# Altium integrated library Xilinx Virtex-II Pro.IntLib: 140 symbols (part 66 of 77)
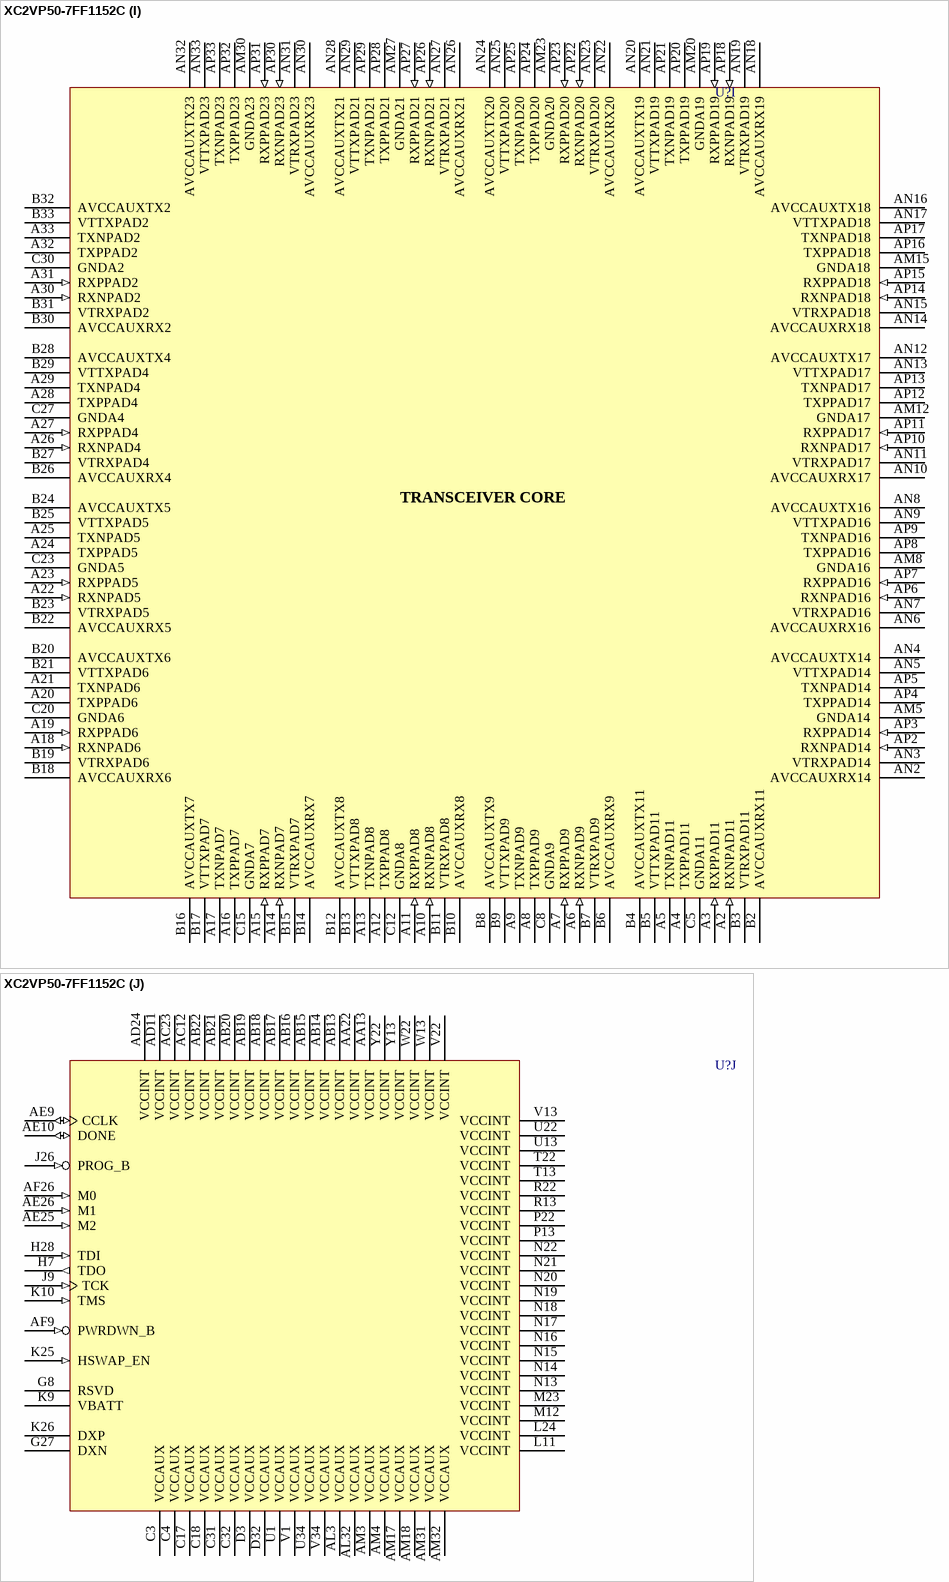
[diagram p464: symbol XC2VP50-7FF1152C]

## XC2VP100-7FF1696C
designator U?
Virtex-II Pro Platform FPGA, 1696-Ball FFBGA, Speed Grade 7, 1164 User I/Os, Commercial Grade; PackageDocument: ver1.0, Oct-2002; User_I/Os: 1164; Published: 16-Apr-2003; DatasheetDocument: 22-Apr-2004; PackageReference: FF1696; Publisher: Altium Limited; Code_JEDEC: MS-034-AAV-1
footprint FF1696 (1696-Ball Flip-Chip Fine Pitch Ball Grid Array (FF1696))
3D model XC2VP100-FF1696 (1696-Ball Flip-Chip Fine Pitch Ball Grid Array (FF1696))
signal-integrity model XC2VP100_FF1696 (Virtex-II Pro)
part A pins: A24 IO_L60N_0 (io), A25 IO_L54N_0 (io), A27 NC, A28 IO_L37N_0 (io), A29 IO_L79N_0 (io), A32 IO_L19N_0 (io), A33 IO_L06N_0 (io), B22 IO_L75N_0/GCLK5P (io), B23 IO_L66N_0 (io), B24 IO_L60P_0 (io), B25 IO_L54P_0 (io), B26 NC, B27 NC, B28 IO_L37P_0 (io), B29 IO_L79P_0 (io), B30 IO_L34N_0 (io), B31 IO_L28N_0 (io), B32 IO_L19P_0 (io), B33 IO_L06P_0 (io), C22 IO_L75P_0/GCLK4S (io), C23 IO_L66P_0/VREF_0 (io), C24 IO_L49N_0 (io), C25 IO_L49P_0 (io), C26 NC, C27 IO_L87N_0 (io), C28 IO_L87P_0/VREF_0 (io), C29 IO_L78P_0 (io), C30 IO_L34P_0 (io), C31 IO_L28P_0 (io), C32 IO_L03N_0 (io), C33 IO_L03P_0/VREF_0 (io), D22 IO_L73N_0 (io), D23 IO_L58N_0 (io), D24 IO_L58P_0 (io), D25 VCCO_0 (power), D26 IO_L45N_0 (io), D27 IO_L45P_0/VREF_0 (io), D28 IO_L78N_0 (io), D29 VCCO_0 (power), D30 IO_L27N_0 (io), D31 IO_L27P_0/VREF_0 (io), D32 IO_L09N_0 (io), D33 VCCO_0 (power), E22 IO_L73P_0 (io), E24 IO_L57N_0 (io), E25 IO_L48N_0 (io), E27 IO_L43N_0 (io), E28 IO_L85N_0 (io), E29 IO_L76N_0 (io), E31 IO_L25N_0 (io), E32 IO_L09P_0/VREF_0 (io), E33 IO_L01N_0/VRP_0 (io), F22 IO_L69N_0 (io), F23 IO_L64N_0 (io), F24 IO_L57P_0/VREF_0 (io), F25 IO_L48P_0 (io), F26 NC, F27 IO_L43P_0 (io), F28 IO_L85P_0 (io), F29 IO_L76P_0 (io), F30 IO_L30N_0 (io), F31 IO_L25P_0 (io), F32 IO_L07N_0 (io), F33 IO_L01P_0/VRN_0 (io), G22 IO_L69P_0/VREF_0 (io), G23 IO_L64P_0 (io), G24 IO_L46N_0 (io), G25 IO_L46P_0 (io), G26 NC, G27 IO_L84N_0 (io), G28 IO_L84P_0 (io), G29 IO_L36P_0/VREF_0 (io), G30 IO_L30P_0 (io), G31 IO_L21P_0 (io), G32 IO_L07P_0 (io), G33 IO_L05_0/No_Pair (io), H22 IO_L67N_0 (io), H23 IO_L55N_0 (io), H24 IO_L55P_0 (io), H25 VCCO_0 (power), H26 IO_L39N_0 (io), H27 IO_L39P_0 (io), H28 IO_L36N_0 (io), H29 VCCO_0 (power), H30 IO_L21N_0 (io), H31 IO_L26N_0 (io), H32 IO_L08N_0 (io), J22 IO_L67P_0 (io), J24 IO_L59N_0 (io), J25 IO_L56N_0 (io), J27 IO_L44N_0 (io), J28 IO_L86N_0 (io), J29 IO_L77N_0 (io), J31 IO_L26P_0 (io), J32 IO_L08P_0 (io), K22 IO_L74N_0/GCLK7P (io), K23 IO_L68N_0 (io), K24 IO_L59P_0 (io), K25 IO_L56P_0 (io), K26 IO_L47N_0 (io), K27 IO_L44P_0 (io), K28 IO_L86P_0 (io), K29 IO_L77P_0 (io), K30 IO_L29N_0 (io), K31 IO_L20N_0 (io), K32 IO_L02N_0 (io), L22 IO_L74P_0/GCLK6S (io), L23 IO_L68P_0 (io), L24 IO_L50_0/No_Pair (io), L25 IO_L53_0/No_Pair (io), L26 IO_L47P_0 (io), L27 IO_L38N_0 (io), L28 IO_L80_0/No_Pair (io), L29 IO_L35N_0 (io), L30 IO_L29P_0 (io), L31 IO_L20P_0 (io), L32 IO_L02P_0 (io), M22 IO_L65N_0 (io), M23 IO_L65P_0 (io), M25 NC, M26 NC, M27 IO_L38P_0 (io), M28 IO_L83_0/No_Pair (io), M29 IO_L35P_0 (io), M30 VCCO_0 (power), P22 VCCO_0 (power), P23 VCCO_0 (power), P24 VCCO_0 (power), P25 VCCO_0 (power), P26 VCCO_0 (power), R22 VCCO_0 (power), R23 VCCO_0 (power), R24 VCCO_0 (power), R25 VCCO_0 (power)
part B pins: A10 IO_L06P_1 (io), A11 IO_L19P_1 (io), A14 IO_L79P_1 (io), A15 IO_L37P_1 (io), A16 NC, A18 IO_L54P_1 (io), A19 IO_L60P_1 (io), B10 IO_L06N_1 (io), B11 IO_L19N_1 (io), B12 IO_L28P_1 (io), B13 IO_L34P_1 (io), B14 IO_L79N_1 (io), B15 IO_L37N_1 (io), B16 NC, B17 NC, B18 IO_L54N_1 (io), B19 IO_L60N_1 (io), B20 IO_L66P_1 (io), B21 IO_L75P_1/GCLK2S (io), C10 IO_L03N_1/VREF_1 (io), C11 IO_L03P_1 (io), C12 IO_L28N_1 (io), C13 IO_L34N_1 (io), C14 IO_L78N_1 (io), C15 IO_L87N_1/VREF_1 (io), C16 IO_L87P_1 (io), C17 NC, C18 IO_L49N_1 (io), C19 IO_L49P_1 (io), C20 IO_L66N_1/VREF_1 (io), C21 IO_L75N_1/GCLK3P (io), D10 VCCO_1 (power), D11 IO_L09P_1 (io), D12 IO_L27N_1/VREF_1 (io), D13 IO_L27P_1 (io), D14 VCCO_1 (power), D15 IO_L78P_1 (io), D16 IO_L45N_1/VREF_1 (io), D17 IO_L45P_1 (io), D18 VCCO_1 (power), D19 IO_L58N_1 (io), D20 IO_L58P_1 (io), D21 IO_L73P_1 (io), E10 IO_L01P_1/VRN_1 (io), E11 IO_L09N_1/VREF_1 (io), E12 IO_L25P_1 (io), E14 IO_L76P_1 (io), E15 IO_L85P_1 (io), E16 IO_L43P_1 (io), E18 IO_L48P_1 (io), E19 IO_L57P_1 (io), E21 IO_L73N_1 (io), F10 IO_L01N_1/VRP_1 (io), F11 IO_L07P_1 (io), F12 IO_L25N_1 (io), F13 IO_L30P_1 (io), F14 IO_L76N_1 (io), F15 IO_L85N_1 (io), F16 IO_L43N_1 (io), F17 NC, F18 IO_L48N_1 (io), F19 IO_L57N_1/VREF_1 (io), F20 IO_L64P_1 (io), F21 IO_L69P_1 (io), G10 IO_L05_1/No_Pair (io), G11 IO_L07N_1 (io), G12 IO_L21N_1 (io), G13 IO_L30N_1 (io), G14 IO_L36N_1/VREF_1 (io), G15 IO_L84N_1 (io), G16 IO_L84P_1 (io), G17 NC, G18 IO_L46N_1 (io), G19 IO_L46P_1 (io), G20 IO_L64N_1 (io), G21 IO_L69N_1/VREF_1 (io), H11 IO_L08P_1 (io), H12 IO_L26P_1 (io), H13 IO_L21P_1 (io), H14 VCCO_1 (power), H15 IO_L36P_1 (io), H16 IO_L39N_1 (io), H17 IO_L39P_1 (io), H18 VCCO_1 (power), H19 IO_L55N_1 (io), H20 IO_L55P_1 (io), H21 IO_L67P_1 (io), J11 IO_L08N_1 (io), J12 IO_L26N_1 (io), J14 IO_L77P_1 (io), J15 IO_L86P_1 (io), J16 IO_L44P_1 (io), J18 IO_L56P_1 (io), J19 IO_L59P_1 (io), J21 IO_L67N_1 (io), K11 IO_L02P_1 (io), K12 IO_L20P_1 (io), K13 IO_L29P_1 (io), K14 IO_L77N_1 (io), K15 IO_L86N_1 (io), K16 IO_L44N_1 (io), K17 IO_L47P_1 (io), K18 IO_L56N_1 (io), K19 IO_L59N_1 (io), K20 IO_L68P_1 (io), K21 IO_L74P_1/GCLK0S (io), L11 IO_L02N_1 (io), L12 IO_L20N_1 (io), L13 IO_L29N_1 (io), L14 IO_L35P_1 (io), L15 IO_L80_1/No_Pair (io), L16 IO_L38P_1 (io), L17 IO_L47N_1 (io), L18 IO_L53_1/No_Pair (io), L19 IO_L50_1/No_Pair (io), L20 IO_L68N_1 (io), L21 IO_L74N_1/GCLK1P (io), M13 VCCO_1 (power), M14 IO_L35N_1 (io), M15 IO_L83_1/No_Pair (io), M16 IO_L38N_1 (io), M17 NC, M18 NC, M20 IO_L65N_1 (io), M21 IO_L65P_1 (io), P17 VCCO_1 (power), P18 VCCO_1 (power), P19 VCCO_1 (power), P20 VCCO_1 (power), P21 VCCO_1 (power), R18 VCCO_1 (power), R19 VCCO_1 (power), R20 VCCO_1 (power), R21 VCCO_1 (power)
part C pins: A4 IO_L06P_2 (io), A6 IO_L04P_2 (io), A7 IO_L03P_2 (io), A8 IO_L01P_2/VRN_2 (io), AA2 IO_L90N_2 (io), AA3 IO_L90P_2 (io), AA4 IO_L88N_2/VREF_2 (io), AA5 IO_L87N_2 (io), AA6 IO_L87P_2 (io), AA7 IO_L89N_2 (io), AA8 IO_L89P_2 (io), AA9 IO_L86N_2 (io), AA10 IO_L86P_2 (io), AA11 IO_L59N_2 (io), AA12 IO_L59P_2 (io), AA14 VCCO_2 (power), AA15 VCCO_2 (power), B4 IO_L06N_2 (io), B5 IO_L75P_2 (io), B6 IO_L04N_2/VREF_2 (io), B7 IO_L03N_2 (io), B8 IO_L01N_2/VRP_2 (io), B9 IO_L02P_2 (io), C3 IO_L78N_2 (io), C4 IO_L78P_2 (io), C5 IO_L75N_2 (io), C6 IO_L76P_2 (io), C7 IO_L73N_2 (io), C8 IO_L73P_2 (io), C9 IO_L02N_2 (io), D1 IO_L79N_2 (io), D2 IO_L79P_2 (io), D3 IO_L84P_2 (io), D4 IO_L82P_2 (io), D5 IO_L81P_2 (io), D6 VCCO_2 (power), D7 IO_L76N_2/VREF_2 (io), D8 IO_L05N_2 (io), D9 IO_L05P_2 (io), E2 IO_L64P_2 (io), E3 IO_L84N_2 (io), E4 IO_L82N_2/VREF_2 (io), E6 IO_L81N_2 (io), E7 IO_L63P_2 (io), E8 IO_L61P_2 (io), F1 IO_L66N_2 (io), F2 IO_L66P_2 (io), F3 IO_L64N_2/VREF_2 (io), F4 VCCO_2 (power), F5 IO_L70P_2 (io), F6 IO_L69P_2 (io), F7 IO_L63N_2 (io), F8 IO_L61N_2 (io), F9 IO_L74P_2 (io), G1 IO_L07N_2 (io), G2 IO_L07P_2 (io), G3 IO_L72N_2 (io), G4 IO_L72P_2 (io), G5 IO_L70N_2/VREF_2 (io), G6 IO_L69N_2 (io), G7 IO_L67N_2 (io), G8 IO_L67P_2 (io), G9 IO_L74N_2 (io), H1 IO_L16P_2 (io), H2 IO_L12N_2 (io), H3 IO_L12P_2 (io), H4 IO_L10N_2/VREF_2 (io), H5 IO_L10P_2 (io), H6 IO_L09N_2 (io), H7 IO_L09P_2 (io), H8 IO_L77N_2 (io), H9 IO_L77P_2 (io), H10 VCCO_2 (power), J2 IO_L16N_2/VREF_2 (io), J3 IO_L15N_2 (io), J4 IO_L15P_2 (io), J6 IO_L13N_2 (io), J7 IO_L13P_2 (io), J8 IO_L80N_2 (io), K1 IO_L19N_2 (io), K2 IO_L19P_2 (io), K3 IO_L24P_2 (io), K4 VCCO_2 (power), K5 IO_L18N_2 (io), K6 IO_L18P_2 (io), K7 IO_L21P_2 (io), K8 VCCO_2 (power), K9 IO_L80P_2 (io), L1 IO_L25N_2 (io), L2 IO_L25P_2 (io), L3 IO_L24N_2 (io), L4 IO_L22N_2/VREF_2 (io), L5 IO_L22P_2 (io), L6 IO_L27P_2 (io), L7 IO_L21N_2 (io), L8 IO_L83N_2 (io), L9 IO_L83P_2 (io), M2 IO_L34P_2 (io), M3 IO_L30N_2 (io), M4 IO_L30P_2 (io), M5 IO_L28N_2/VREF_2 (io), M6 IO_L28P_2 (io), M7 IO_L27N_2 (io), M8 IO_L62N_2 (io), M9 IO_L62P_2 (io), M10 VCCO_2 (power), N2 IO_L34N_2/VREF_2 (io), N3 IO_L33N_2 (io), N4 IO_L33P_2 (io), N6 IO_L31N_2 (io), N7 IO_L31P_2 (io), N8 IO_L08N_2 (io), N10 IO_L68N_2 (io), N11 IO_L68P_2 (io), N12 IO_L65N_2 (io), P1 IO_L37N_2 (io), P2 IO_L37P_2 (io), P3 IO_L42P_2 (io), P4 VCCO_2 (power), P5 IO_L39P_2 (io), P6 IO_L36N_2 (io), P7 IO_L36P_2 (io), P8 VCCO_2 (power), P9 IO_L08P_2 (io), P10 IO_L71N_2 (io), P11 IO_L71P_2 (io), P12 IO_L65P_2 (io), R1 IO_L43N_2 (io), R2 IO_L43P_2 (io), R3 IO_L42N_2 (io), R4 IO_L40N_2/VREF_2 (io), R5 IO_L40P_2 (io), R6 IO_L39N_2 (io), R7 IO_L45P_2 (io), R8 IO_L17N_2 (io), R9 IO_L17P_2 (io), R10 IO_L14N_2 (io), R11 IO_L14P_2 (io), R12 IO_L11N_2 (io), R14 VCCO_2 (power), T1 IO_L48N_2 (io), T2 IO_L48P_2 (io), T3 IO_L51P_2 (io), T4 IO_L46N_2/VREF_2 (io), T5 IO_L46P_2 (io), T6 IO_L49P_2 (io), T7 IO_L45N_2 (io), T8 IO_L23N_2 (io), T9 IO_L23P_2 (io), T10 IO_L20N_2 (io), T11 IO_L20P_2 (io), T12 IO_L11P_2 (io), T14 VCCO_2 (power), T15 VCCO_2 (power), U2 IO_L52N_2/VREF_2 (io), U3 IO_L52P_2 (io), U4 IO_L51N_2 (io), U6 IO_L49N_2 (io), U7 IO_L32N_2 (io), U8 IO_L32P_2 (io), U10 IO_L29N_2 (io), U11 IO_L29P_2 (io), U12 IO_L26N_2 (io), U14 VCCO_2 (power), U15 VCCO_2 (power), V1 IO_L55N_2 (io), V2 IO_L55P_2 (io), V3 IO_L58P_2 (io), V4 IO_L54N_2 (io), V5 IO_L54P_2 (io), V6 IO_L41N_2 (io), V7 IO_L41P_2 (io), V8 IO_L38N_2 (io), V9 IO_L38P_2 (io), V10 IO_L35N_2 (io), V11 IO_L35P_2 (io), V12 IO_L26P_2 (io), V14 VCCO_2 (power), V15 VCCO_2 (power), W1 IO_L60N_2 (io), W2 IO_L60P_2 (io), W3 IO_L58N_2/VREF_2 (io), W4 VCCO_2 (power), W5 IO_L57N_2 (io), W6 IO_L57P_2 (io), W7 IO_L50N_2 (io), W8 VCCO_2 (power), W9 IO_L47N_2 (io), W10 IO_L44N_2 (io), W11 IO_L44P_2 (io), W14 VCCO_2 (power), W15 VCCO_2 (power), Y2 IO_L85N_2 (io), Y3 IO_L85P_2 (io), Y4 IO_L88P_2 (io), Y6 IO_L56N_2 (io), Y7 IO_L56P_2 (io), Y8 IO_L50P_2 (io), Y10 IO_L47P_2 (io), Y11 IO_L53N_2 (io), Y12 IO_L53P_2 (io), Y14 VCCO_2 (power), Y15 VCCO_2 (power)
part D pins: AB2 IO_L88N_3 (io), AB3 IO_L88P_3 (io), AB4 IO_L87N_3/VREF_3 (io), AB5 IO_L90N_3 (io), AB6 IO_L90P_3 (io), AB7 IO_L59N_3 (io), AB8 IO_L59P_3 (io), AB9 IO_L86N_3 (io), AB10 IO_L86P_3 (io), AB11 IO_L89N_3 (io), AB12 IO_L89P_3 (io), AB14 VCCO_3 (power), AB15 VCCO_3 (power), AC2 IO_L85N_3 (io), AC3 IO_L85P_3 (io), AC4 IO_L87P_3 (io), AC6 IO_L53N_3 (io), AC7 IO_L53P_3 (io), AC8 IO_L44N_3 (io), AC10 IO_L47N_3 (io), AC11 IO_L56N_3 (io), AC12 IO_L56P_3 (io), AC14 VCCO_3 (power), AC15 VCCO_3 (power), AD1 IO_L58N_3 (io), AD2 IO_L58P_3 (io), AD3 IO_L55N_3 (io), AD4 VCCO_3 (power), AD5 IO_L60N_3 (io), AD6 IO_L60P_3 (io), AD7 IO_L44P_3 (io), AD8 VCCO_3 (power), AD9 IO_L47P_3 (io), AD10 IO_L50N_3 (io), AD11 IO_L50P_3 (io), AD14 VCCO_3 (power), AD15 VCCO_3 (power), AE1 IO_L54N_3 (io), AE2 IO_L54P_3 (io), AE3 IO_L55P_3 (io), AE4 IO_L57N_3/VREF_3 (io), AE5 IO_L57P_3 (io), AE6 IO_L35N_3 (io), AE7 IO_L35P_3 (io), AE8 IO_L38N_3 (io), AE9 IO_L38P_3 (io), AE10 IO_L41N_3 (io), AE11 IO_L41P_3 (io), AE12 IO_L32N_3 (io), AE14 VCCO_3 (power), AE15 VCCO_3 (power), AF2 IO_L52N_3 (io), AF3 IO_L52P_3 (io), AF4 IO_L48N_3 (io), AF6 IO_L51N_3/VREF_3 (io), AF7 IO_L26N_3 (io), AF8 IO_L26P_3 (io), AF10 IO_L29N_3 (io), AF11 IO_L29P_3 (io), AF12 IO_L32P_3 (io), AF14 VCCO_3 (power), AF15 VCCO_3 (power), AG1 IO_L46N_3 (io), AG2 IO_L46P_3 (io), AG3 IO_L48P_3 (io), AG4 IO_L49N_3 (io), AG5 IO_L49P_3 (io), AG6 IO_L51P_3 (io), AG7 IO_L45N_3/VREF_3 (io), AG8 IO_L20N_3 (io), AG9 IO_L20P_3 (io), AG10 IO_L23N_3 (io), AG11 IO_L23P_3 (io), AG12 IO_L17N_3 (io), AG14 VCCO_3 (power), AG15 VCCO_3 (power), AH1 IO_L42N_3 (io), AH2 IO_L42P_3 (io), AH3 IO_L37N_3 (io), AH4 IO_L43N_3 (io), AH5 IO_L43P_3 (io), AH6 IO_L39N_3/VREF_3 (io), AH7 IO_L45P_3 (io), AH8 IO_L11N_3 (io), AH9 IO_L11P_3 (io), AH10 IO_L14N_3 (io), AH11 IO_L14P_3 (io), AH12 IO_L17P_3 (io), AH14 VCCO_3 (power), AJ1 IO_L36N_3 (io), AJ2 IO_L36P_3 (io), AJ3 IO_L37P_3 (io), AJ4 VCCO_3 (power), AJ5 IO_L39P_3 (io), AJ6 IO_L40N_3 (io), AJ7 IO_L40P_3 (io), AJ8 VCCO_3 (power), AJ9 IO_L65N_3 (io), AJ10 IO_L08N_3 (io), AJ11 IO_L08P_3 (io), AJ12 IO_L71N_3 (io), AK2 IO_L28N_3 (io), AK3 IO_L33N_3/VREF_3 (io), AK4 IO_L33P_3 (io), AK6 IO_L34N_3 (io), AK7 IO_L34P_3 (io), AK8 IO_L65P_3 (io), AK10 IO_L68N_3 (io), AK11 IO_L68P_3 (io), AK12 IO_L71P_3 (io), AL2 IO_L28P_3 (io), AL3 IO_L30N_3 (io), AL4 IO_L30P_3 (io), AL5 IO_L31N_3 (io), AL6 IO_L31P_3 (io), AL7 IO_L27N_3/VREF_3 (io), AL8 IO_L62N_3 (io), AL9 IO_L62P_3 (io), AL10 VCCO_3 (power), AM1 IO_L24N_3 (io), AM2 IO_L24P_3 (io), AM3 IO_L19N_3 (io), AM4 IO_L25N_3 (io), AM5 IO_L25P_3 (io), AM6 IO_L27P_3 (io), AM7 IO_L22N_3 (io), AM8 IO_L83N_3 (io), AM9 IO_L83P_3 (io), AN1 IO_L18N_3 (io), AN2 IO_L18P_3 (io), AN3 IO_L19P_3 (io), AN4 VCCO_3 (power), AN5 IO_L21N_3/VREF_3 (io), AN6 IO_L21P_3 (io), AN7 IO_L22P_3 (io), AN8 VCCO_3 (power), AN9 IO_L80N_3 (io), AP2 IO_L09N_3/VREF_3 (io), AP3 IO_L15N_3/VREF_3 (io), AP4 IO_L15P_3 (io), AP6 IO_L16N_3 (io), AP7 IO_L16P_3 (io), AP8 IO_L80P_3 (io), AR1 IO_L09P_3 (io), AR2 IO_L10N_3 (io), AR3 IO_L10P_3 (io), AR4 IO_L12N_3 (io), AR5 IO_L12P_3 (io), AR6 IO_L13N_3 (io), AR7 IO_L13P_3 (io), AR8 IO_L77N_3 (io), AR9 IO_L77P_3 (io), AR10 VCCO_3 (power), AT1 IO_L70N_3 (io), AT2 IO_L70P_3 (io), AT3 IO_L72N_3 (io), AT4 IO_L72P_3 (io), AT5 IO_L67N_3 (io), AT6 IO_L69N_3/VREF_3 (io), AT7 IO_L07N_3 (io), AT8 IO_L07P_3 (io), AT9 IO_L74N_3 (io), AU1 IO_L66N_3 (io), AU2 IO_L66P_3 (io), AU3 IO_L61N_3 (io), AU4 VCCO_3 (power), AU5 IO_L67P_3 (io), AU6 IO_L69P_3 (io), AU7 IO_L63N_3/VREF_3 (io), AU8 IO_L64N_3 (io), AU9 IO_L74P_3 (io), AV2 IO_L61P_3 (io), AV3 IO_L81N_3/VREF_3 (io), AV4 IO_L82N_3 (io), AV6 IO_L84N_3 (io), AV7 IO_L63P_3 (io), AV8 IO_L64P_3 (io), AW1 IO_L79N_3 (io), AW2 IO_L79P_3 (io), AW3 IO_L81P_3 (io), AW4 IO_L82P_3 (io), AW5 IO_L84P_3 (io), AW6 VCCO_3 (power), AW7 IO_L76N_3 (io), AW8 IO_L05N_3 (io), AW9 IO_L05P_3 (io), AY3 IO_L75N_3/VREF_3 (io), AY4 IO_L75P_3 (io), AY5 IO_L73N_3 (io), AY6 IO_L76P_3 (io), AY7 IO_L78N_3 (io), AY8 IO_L78P_3 (io), AY9 IO_L02N_3 (io), BA4 IO_L01N_3/VRP_3 (io), BA5 IO_L73P_3 (io), BA6 IO_L03N_3/VREF_3 (io), BA7 IO_L04N_3 (io), BA8 IO_L06N_3 (io), BA9 IO_L02P_3 (io), BB4 IO_L01P_3/VRN_3 (io), BB6 IO_L03P_3 (io), BB7 IO_L04P_3 (io), BB8 IO_L06P_3 (io)
part E pins: AH18 VCCO_4 (power), AH19 VCCO_4 (power), AH20 VCCO_4 (power), AH21 VCCO_4 (power), AJ17 VCCO_4 (power), AJ18 VCCO_4 (power), AJ19 VCCO_4 (power), AJ20 VCCO_4 (power), AJ21 VCCO_4 (power), AL11 IO_L01N_4/DOUT (io), AL12 IO_L01P_4/INIT_B (io), AL13 VCCO_4 (power), AL14 IO_L36P_4/VREF_4 (io), AL15 IO_L84P_4 (io), AL16 IO_L39P_4 (io), AL17 NC, AL18 NC, AL20 IO_L65P_4 (io), AL21 IO_L65N_4 (io), AM11 IO_L03P_4/D3 (io), AM12 IO_L21P_4 (io), AM13 IO_L30P_4 (io), AM14 IO_L36N_4 (io), AM15 IO_L84N_4 (io), AM16 IO_L39N_4 (io), AM17 IO_L47P_4 (io), AM18 IO_L53_4/No_Pair (io), AM19 IO_L50_4/No_Pair (io), AM20 IO_L68P_4 (io), AM21 IO_L74P_4/GCLK2P (io), AN11 IO_L03N_4/D2 (io), AN12 IO_L21N_4 (io), AN13 IO_L30N_4 (io), AN14 IO_L78P_4 (io), AN15 IO_L87P_4/VREF_4 (io), AN16 IO_L45P_4/VREF_4 (io), AN17 IO_L47N_4 (io), AN18 IO_L56P_4 (io), AN19 IO_L59P_4 (io), AN20 IO_L68N_4 (io), AN21 IO_L74N_4/GCLK3S (io), AP11 IO_L09P_4/VREF_4 (io), AP12 IO_L27P_4/VREF_4 (io), AP14 IO_L78N_4 (io), AP15 IO_L87N_4 (io), AP16 IO_L45N_4 (io), AP18 IO_L56N_4 (io), AP19 IO_L59N_4 (io), AP21 IO_L67P_4 (io), AR11 IO_L09N_4 (io), AR12 IO_L27N_4 (io), AR13 IO_L25N_4 (io), AR14 VCCO_4 (power), AR15 IO_L76N_4 (io), AR16 IO_L43P_4 (io), AR17 IO_L43N_4 (io), AR18 VCCO_4 (power), AR19 IO_L55P_4 (io), AR20 IO_L55N_4 (io), AR21 IO_L67N_4 (io), AT10 IO_L05_4/No_Pair (io), AT11 IO_L08P_4 (io), AT12 IO_L25P_4 (io), AT13 IO_L34P_4 (io), AT14 IO_L76P_4 (io), AT15 IO_L85P_4 (io), AT16 IO_L85N_4 (io), AT17 NC, AT18 IO_L46P_4 (io), AT19 IO_L46N_4 (io), AT20 IO_L64P_4 (io), AT21 IO_L69P_4/VREF_4 (io), AU10 IO_L02P_4/D1 (io), AU11 IO_L08N_4 (io), AU12 IO_L26P_4 (io), AU13 IO_L34N_4 (io), AU14 IO_L77P_4 (io), AU15 IO_L86P_4 (io), AU16 IO_L44P_4 (io), AU17 NC, AU18 IO_L48P_4 (io), AU19 IO_L57P_4/VREF_4 (io), AU20 IO_L64N_4 (io), AU21 IO_L69N_4 (io), AV10 IO_L02N_4/D0 (io), AV11 IO_L19P_4 (io), AV12 IO_L26N_4 (io), AV14 IO_L77N_4 (io), AV15 IO_L86N_4 (io), AV16 IO_L44N_4 (io), AV18 IO_L48N_4 (io), AV19 IO_L57N_4 (io), AV21 IO_L73P_4 (io), AW10 VCCO_4 (power), AW11 IO_L19N_4 (io), AW12 IO_L28P_4 (io), AW13 IO_L28N_4 (io), AW14 VCCO_4 (power), AW15 IO_L79N_4 (io), AW16 NC, AW17 NC, AW18 VCCO_4 (power), AW19 IO_L58P_4 (io), AW20 IO_L58N_4 (io), AW21 IO_L73N_4 (io), AY10 IO_L06P_4/VRN_4 (io), AY11 IO_L06N_4/VRP_4 (io), AY12 IO_L29P_4 (io), AY13 IO_L35P_4 (io), AY14 IO_L79P_4 (io), AY15 IO_L37P_4 (io), AY16 IO_L37N_4 (io), AY17 NC, AY18 IO_L49P_4 (io), AY19 IO_L49N_4 (io), AY20 IO_L66P_4/VREF_4 (io), AY21 IO_L75P_4/GCLK0P (io), BA10 IO_L07P_4/VREF_4 (io), BA11 IO_L20P_4 (io), BA12 IO_L29N_4 (io), BA13 IO_L35N_4 (io), BA14 IO_L83_4/No_Pair (io), BA15 IO_L38P_4 (io), BA16 NC, BA17 NC, BA18 IO_L54P_4 (io), BA19 IO_L60P_4 (io), BA20 IO_L66N_4 (io), BA21 IO_L75N_4/GCLK1S (io), BB10 IO_L07N_4 (io), BB11 IO_L20N_4 (io), BB14 IO_L80_4/No_Pair (io), BB15 IO_L38N_4 (io), BB16 NC, BB18 IO_L54N_4 (io), BB19 IO_L60N_4 (io)
part F pins: AH22 VCCO_5 (power), AH23 VCCO_5 (power), AH24 VCCO_5 (power), AH25 VCCO_5 (power), AJ22 VCCO_5 (power), AJ23 VCCO_5 (power), AJ24 VCCO_5 (power), AJ25 VCCO_5 (power), AJ26 VCCO_5 (power), AL22 IO_L65P_5 (io), AL23 IO_L65N_5 (io), AL25 NC, AL26 NC, AL27 IO_L39N_5 (io), AL28 IO_L84N_5 (io), AL29 IO_L36N_5/VREF_5 (io), AL30 VCCO_5 (power), AL31 IO_L01N_5/RDWR_B (io), AL32 IO_L01P_5/CS_B (io), AM22 IO_L74N_5/GCLK5S (io), AM23 IO_L68N_5 (io), AM24 IO_L50_5/No_Pair (io), AM25 IO_L53_5/No_Pair (io), AM26 IO_L47N_5 (io), AM27 IO_L39P_5 (io), AM28 IO_L84P_5 (io), AM29 IO_L36P_5 (io), AM30 IO_L30N_5 (io), AM31 IO_L21N_5 (io), AM32 IO_L03N_5/D4 (io), AN22 IO_L74P_5/GCLK4P (io), AN23 IO_L68P_5 (io), AN24 IO_L59N_5 (io), AN25 IO_L56N_5 (io), AN26 IO_L47P_5 (io), AN27 IO_L45N_5/VREF_5 (io), AN28 IO_L87N_5/VREF_5 (io), AN29 IO_L78N_5 (io), AN30 IO_L30P_5 (io), AN31 IO_L21P_5 (io), AN32 IO_L03P_5/D5 (io), AP22 IO_L67N_5 (io), AP24 IO_L59P_5 (io), AP25 IO_L56P_5 (io), AP27 IO_L45P_5 (io), AP28 IO_L87P_5 (io), AP29 IO_L78P_5 (io), AP31 IO_L27N_5/VREF_5 (io), AP32 IO_L09N_5/VREF_5 (io), AR22 IO_L67P_5 (io), AR23 IO_L55P_5 (io), AR24 IO_L55N_5 (io), AR25 VCCO_5 (power), AR26 IO_L43P_5 (io), AR27 IO_L43N_5 (io), AR28 IO_L76P_5 (io), AR29 VCCO_5 (power), AR30 IO_L25P_5 (io), AR31 IO_L27P_5 (io), AR32 IO_L09P_5 (io), AT22 IO_L69N_5/VREF_5 (io), AT23 IO_L64N_5 (io), AT24 IO_L46P_5 (io), AT25 IO_L46N_5 (io), AT26 NC, AT27 IO_L85P_5 (io), AT28 IO_L85N_5 (io), AT29 IO_L76N_5 (io), AT30 IO_L34N_5 (io), AT31 IO_L25N_5 (io), AT32 IO_L08N_5 (io), AT33 IO_L05_5/No_Pair (io), AU22 IO_L69P_5 (io), AU23 IO_L64P_5 (io), AU24 IO_L57N_5/VREF_5 (io), AU25 IO_L48N_5 (io), AU26 NC, AU27 IO_L44N_5 (io), AU28 IO_L86N_5 (io), AU29 IO_L77N_5 (io), AU30 IO_L34P_5 (io), AU31 IO_L26N_5 (io), AU32 IO_L08P_5 (io), AU33 IO_L02N_5/D6 (io), AV22 IO_L73N_5 (io), AV24 IO_L57P_5 (io), AV25 IO_L48P_5 (io), AV27 IO_L44P_5 (io), AV28 IO_L86P_5 (io), AV29 IO_L77P_5 (io), AV31 IO_L26P_5 (io), AV32 IO_L19N_5 (io), AV33 IO_L02P_5/D7 (io), AW22 IO_L73P_5 (io), AW23 IO_L58P_5 (io), AW24 IO_L58N_5 (io), AW25 VCCO_5 (power), AW26 NC, AW27 NC, AW28 IO_L79P_5 (io), AW29 VCCO_5 (power), AW30 IO_L28P_5 (io), AW31 IO_L28N_5 (io), AW32 IO_L19P_5 (io), AW33 VCCO_5 (power), AY22 IO_L75N_5/GCLK7S (io), AY23 IO_L66N_5/VREF_5 (io), AY24 IO_L49P_5 (io), AY25 IO_L49N_5 (io), AY26 NC, AY27 IO_L37P_5 (io), AY28 IO_L37N_5 (io), AY29 IO_L79N_5 (io), AY30 IO_L35N_5 (io), AY31 IO_L29N_5 (io), AY32 IO_L06P_5/VRN_5 (io), AY33 IO_L06N_5/VRP_5 (io), BA22 IO_L75P_5/GCLK6P (io), BA23 IO_L66P_5 (io), BA24 IO_L60N_5 (io), BA25 IO_L54N_5 (io), BA26 NC, BA27 NC, BA28 IO_L38N_5 (io), BA29 IO_L83_5/No_Pair (io), BA30 IO_L35P_5 (io), BA31 IO_L29P_5 (io), BA32 IO_L20N_5 (io), BA33 IO_L07N_5/VREF_5 (io), BB24 IO_L60P_5 (io), BB25 IO_L54P_5 (io), BB27 NC, BB28 IO_L38P_5 (io), BB29 IO_L80_5/No_Pair (io), BB32 IO_L20P_5 (io), BB33 IO_L07P_5 (io)
part G pins: AB28 VCCO_6 (power), AB29 VCCO_6 (power), AB31 IO_L89P_6 (io), AB32 IO_L89N_6 (io), AB33 IO_L86P_6 (io), AB34 IO_L86N_6 (io), AB35 IO_L59P_6 (io), AB36 IO_L59N_6 (io), AB37 IO_L90P_6 (io), AB38 IO_L90N_6 (io), AB39 IO_L87N_6/VREF_6 (io), AB40 IO_L88P_6 (io), AB41 IO_L88N_6 (io), AC28 VCCO_6 (power), AC29 VCCO_6 (power), AC31 IO_L56P_6 (io), AC32 IO_L56N_6 (io), AC33 IO_L47N_6 (io), AC35 IO_L44N_6 (io), AC36 IO_L53P_6 (io), AC37 IO_L53N_6 (io), AC39 IO_L87P_6 (io), AC40 IO_L85P_6 (io), AC41 IO_L85N_6 (io), AD28 VCCO_6 (power), AD29 VCCO_6 (power), AD32 IO_L50P_6 (io), AD33 IO_L50N_6 (io), AD34 IO_L47P_6 (io), AD35 VCCO_6 (power), AD36 IO_L44P_6 (io), AD37 IO_L60P_6 (io), AD38 IO_L60N_6 (io), AD39 VCCO_6 (power), AD40 IO_L55N_6 (io), AD41 IO_L58P_6 (io), AD42 IO_L58N_6 (io), AE28 VCCO_6 (power), AE29 VCCO_6 (power), AE31 IO_L32N_6 (io), AE32 IO_L41P_6 (io), AE33 IO_L41N_6 (io), AE34 IO_L38P_6 (io), AE35 IO_L38N_6 (io), AE36 IO_L35P_6 (io), AE37 IO_L35N_6 (io), AE38 IO_L57P_6 (io), AE39 IO_L57N_6/VREF_6 (io), AE40 IO_L55P_6 (io), AE41 IO_L54P_6 (io), AE42 IO_L54N_6 (io), AF28 VCCO_6 (power), AF29 VCCO_6 (power), AF31 IO_L32P_6 (io), AF32 IO_L29P_6 (io), AF33 IO_L29N_6 (io), AF35 IO_L26P_6 (io), AF36 IO_L26N_6 (io), AF37 IO_L51N_6/VREF_6 (io), AF39 IO_L48N_6 (io), AF40 IO_L52P_6 (io), AF41 IO_L52N_6 (io), AG28 VCCO_6 (power), AG29 VCCO_6 (power), AG31 IO_L17N_6 (io), AG32 IO_L23P_6 (io), AG33 IO_L23N_6 (io), AG34 IO_L20P_6 (io), AG35 IO_L20N_6 (io), AG36 IO_L45N_6/VREF_6 (io), AG37 IO_L51P_6 (io), AG38 IO_L49P_6 (io), AG39 IO_L49N_6 (io), AG40 IO_L48P_6 (io), AG41 IO_L46P_6 (io), AG42 IO_L46N_6 (io), AH29 VCCO_6 (power), AH31 IO_L17P_6 (io), AH32 IO_L14P_6 (io), AH33 IO_L14N_6 (io), AH34 IO_L11P_6 (io), AH35 IO_L11N_6 (io), AH36 IO_L45P_6 (io), AH37 IO_L39N_6/VREF_6 (io), AH38 IO_L43P_6 (io), AH39 IO_L43N_6 (io), AH40 IO_L37N_6 (io), AH41 IO_L42P_6 (io), AH42 IO_L42N_6 (io), AJ31 IO_L71N_6 (io), AJ32 IO_L08P_6 (io), AJ33 IO_L08N_6 (io), AJ34 IO_L65N_6 (io), AJ35 VCCO_6 (power), AJ36 IO_L40P_6 (io), AJ37 IO_L40N_6 (io), AJ38 IO_L39P_6 (io), AJ39 VCCO_6 (power), AJ40 IO_L37P_6 (io), AJ41 IO_L36P_6 (io), AJ42 IO_L36N_6 (io), AK31 IO_L71P_6 (io), AK32 IO_L68P_6 (io), AK33 IO_L68N_6 (io), AK35 IO_L65P_6 (io), AK36 IO_L34P_6 (io), AK37 IO_L34N_6 (io), AK39 IO_L33P_6 (io), AK40 IO_L33N_6/VREF_6 (io), AK41 IO_L28N_6 (io), AL33 VCCO_6 (power), AL34 IO_L62P_6 (io), AL35 IO_L62N_6 (io), AL36 IO_L27N_6/VREF_6 (io), AL37 IO_L31P_6 (io), AL38 IO_L31N_6 (io), AL39 IO_L30P_6 (io), AL40 IO_L30N_6 (io), AL41 IO_L28P_6 (io), AM34 IO_L83P_6 (io), AM35 IO_L83N_6 (io), AM36 IO_L22N_6 (io), AM37 IO_L27P_6 (io), AM38 IO_L25P_6 (io), AM39 IO_L25N_6 (io), AM40 IO_L19N_6 (io), AM41 IO_L24P_6 (io), AM42 IO_L24N_6 (io), AN34 IO_L80N_6 (io), AN35 VCCO_6 (power), AN36 IO_L22P_6 (io), AN37 IO_L21P_6 (io), AN38 IO_L21N_6/VREF_6 (io), AN39 VCCO_6 (power), AN40 IO_L19P_6 (io), AN41 IO_L18P_6 (io), AN42 IO_L18N_6 (io), AP35 IO_L80P_6 (io), AP36 IO_L16P_6 (io), AP37 IO_L16N_6 (io), AP39 IO_L15P_6 (io), AP40 IO_L15N_6/VREF_6 (io), AP41 IO_L09N_6/VREF_6 (io), AR33 VCCO_6 (power), AR34 IO_L77P_6 (io), AR35 IO_L77N_6 (io), AR36 IO_L13P_6 (io), AR37 IO_L13N_6 (io), AR38 IO_L12P_6 (io), AR39 IO_L12N_6 (io), AR40 IO_L10P_6 (io), AR41 IO_L10N_6 (io), AR42 IO_L09P_6 (io), AT34 IO_L74N_6 (io), AT35 IO_L07P_6 (io), AT36 IO_L07N_6 (io), AT37 IO_L69N_6/VREF_6 (io), AT38 IO_L67N_6 (io), AT39 IO_L72P_6 (io), AT40 IO_L72N_6 (io), AT41 IO_L70P_6 (io), AT42 IO_L70N_6 (io), AU34 IO_L74P_6 (io), AU35 IO_L64N_6 (io), AU36 IO_L63N_6/VREF_6 (io), AU37 IO_L69P_6 (io), AU38 IO_L67P_6 (io), AU39 VCCO_6 (power), AU40 IO_L61N_6 (io), AU41 IO_L66P_6 (io), AU42 IO_L66N_6 (io), AV35 IO_L64P_6 (io), AV36 IO_L63P_6 (io), AV37 IO_L84N_6 (io), AV39 IO_L82N_6 (io), AV40 IO_L81N_6/VREF_6 (io), AV41 IO_L61P_6 (io), AW34 IO_L05P_6 (io), AW35 IO_L05N_6 (io), AW36 IO_L76N_6 (io), AW37 VCCO_6 (power), AW38 IO_L84P_6 (io), AW39 IO_L82P_6 (io), AW40 IO_L81P_6 (io), AW41 IO_L79P_6 (io), AW42 IO_L79N_6 (io), AY34 IO_L02N_6 (io), AY35 IO_L78P_6 (io), AY36 IO_L78N_6 (io), AY37 IO_L76P_6 (io), AY38 IO_L73N_6 (io), AY39 IO_L75P_6 (io), AY40 IO_L75N_6/VREF_6 (io), BA34 IO_L02P_6 (io), BA35 IO_L06N_6 (io), BA36 IO_L04N_6 (io), BA37 IO_L03N_6/VREF_6 (io), BA38 IO_L73P_6 (io), BA39 IO_L01N_6/VRP_6 (io), BB35 IO_L06P_6 (io), BB36 IO_L04P_6 (io), BB37 IO_L03P_6 (io), BB39 IO_L01P_6/VRN_6 (io)
part H pins: A35 IO_L01P_7/VRN_7 (io), A36 IO_L03P_7 (io), A37 IO_L04P_7 (io), A39 IO_L06P_7 (io), AA28 VCCO_7 (power), AA29 VCCO_7 (power), AA31 IO_L59P_7 (io), AA32 IO_L59N_7 (io), AA33 IO_L86P_7 (io), AA34 IO_L86N_7 (io), AA35 IO_L89P_7 (io), AA36 IO_L89N_7 (io), AA37 IO_L87P_7 (io), AA38 IO_L87N_7 (io), AA39 IO_L88N_7/VREF_7 (io), AA40 IO_L90P_7 (io), AA41 IO_L90N_7 (io), B34 IO_L02P_7 (io), B35 IO_L01N_7/VRP_7 (io), B36 IO_L03N_7 (io), B37 IO_L04N_7/VREF_7 (io), B38 IO_L75P_7 (io), B39 IO_L06N_7 (io), C34 IO_L02N_7 (io), C35 IO_L73P_7 (io), C36 IO_L73N_7 (io), C37 IO_L76P_7 (io), C38 IO_L75N_7 (io), C39 IO_L78P_7 (io), C40 IO_L78N_7 (io), D34 IO_L05P_7 (io), D35 IO_L05N_7 (io), D36 IO_L76N_7/VREF_7 (io), D37 VCCO_7 (power), D38 IO_L81P_7 (io), D39 IO_L82P_7 (io), D40 IO_L84P_7 (io), D41 IO_L79P_7 (io), D42 IO_L79N_7 (io), E35 IO_L61P_7 (io), E36 IO_L63P_7 (io), E37 IO_L81N_7 (io), E39 IO_L82N_7/VREF_7 (io), E40 IO_L84N_7 (io), E41 IO_L64P_7 (io), F34 IO_L74P_7 (io), F35 IO_L61N_7 (io), F36 IO_L63N_7 (io), F37 IO_L69P_7 (io), F38 IO_L70P_7 (io), F39 VCCO_7 (power), F40 IO_L64N_7/VREF_7 (io), F41 IO_L66P_7 (io), F42 IO_L66N_7 (io), G34 IO_L74N_7 (io), G35 IO_L67P_7 (io), G36 IO_L67N_7 (io), G37 IO_L69N_7 (io), G38 IO_L70N_7/VREF_7 (io), G39 IO_L72P_7 (io), G40 IO_L72N_7 (io), G41 IO_L07P_7 (io), G42 IO_L07N_7 (io), H33 VCCO_7 (power), H34 IO_L77P_7 (io), H35 IO_L77N_7 (io), H36 IO_L09P_7 (io), H37 IO_L09N_7 (io), H38 IO_L10P_7 (io), H39 IO_L10N_7/VREF_7 (io), H40 IO_L12P_7 (io), H41 IO_L12N_7 (io), H42 IO_L16P_7 (io), J35 IO_L80N_7 (io), J36 IO_L13P_7 (io), J37 IO_L13N_7 (io), J39 IO_L15P_7 (io), J40 IO_L15N_7 (io), J41 IO_L16N_7/VREF_7 (io), K34 IO_L80P_7 (io), K35 VCCO_7 (power), K36 IO_L21P_7 (io), K37 IO_L18P_7 (io), K38 IO_L18N_7 (io), K39 VCCO_7 (power), K40 IO_L24P_7 (io), K41 IO_L19P_7 (io), K42 IO_L19N_7 (io), L34 IO_L83P_7 (io), L35 IO_L83N_7 (io), L36 IO_L21N_7 (io), L37 IO_L27P_7 (io), L38 IO_L22P_7 (io), L39 IO_L22N_7/VREF_7 (io), L40 IO_L24N_7 (io), L41 IO_L25P_7 (io), L42 IO_L25N_7 (io), M33 VCCO_7 (power), M34 IO_L62P_7 (io), M35 IO_L62N_7 (io), M36 IO_L27N_7 (io), M37 IO_L28P_7 (io), M38 IO_L28N_7/VREF_7 (io), M39 IO_L30P_7 (io), M40 IO_L30N_7 (io), M41 IO_L34P_7 (io), N31 IO_L65N_7 (io), N32 IO_L68P_7 (io), N33 IO_L68N_7 (io), N35 IO_L08N_7 (io), N36 IO_L31P_7 (io), N37 IO_L31N_7 (io), N39 IO_L33P_7 (io), N40 IO_L33N_7 (io), N41 IO_L34N_7/VREF_7 (io), P31 IO_L65P_7 (io), P32 IO_L71P_7 (io), P33 IO_L71N_7 (io), P34 IO_L08P_7 (io), P35 VCCO_7 (power), P36 IO_L36P_7 (io), P37 IO_L36N_7 (io), P38 IO_L39P_7 (io), P39 VCCO_7 (power), P40 IO_L42P_7 (io), P41 IO_L37P_7 (io), P42 IO_L37N_7 (io), R29 VCCO_7 (power), R31 IO_L11N_7 (io), R32 IO_L14P_7 (io), R33 IO_L14N_7 (io), R34 IO_L17P_7 (io), R35 IO_L17N_7 (io), R36 IO_L45P_7 (io), R37 IO_L39N_7 (io), R38 IO_L40P_7 (io), R39 IO_L40N_7/VREF_7 (io), R40 IO_L42N_7 (io), R41 IO_L43P_7 (io), R42 IO_L43N_7 (io), T28 VCCO_7 (power), T29 VCCO_7 (power), T31 IO_L11P_7 (io), T32 IO_L20P_7 (io), T33 IO_L20N_7 (io), T34 IO_L23P_7 (io), T35 IO_L23N_7 (io), T36 IO_L45N_7 (io), T37 IO_L49P_7 (io), T38 IO_L46P_7 (io), T39 IO_L46N_7/VREF_7 (io), T40 IO_L51P_7 (io), T41 IO_L48P_7 (io), T42 IO_L48N_7 (io), U28 VCCO_7 (power), U29 VCCO_7 (power), U31 IO_L26N_7 (io), U32 IO_L29P_7 (io), U33 IO_L29N_7 (io), U35 IO_L32P_7 (io), U36 IO_L32N_7 (io), U37 IO_L49N_7 (io), U39 IO_L51N_7 (io), U40 IO_L52P_7 (io), U41 IO_L52N_7/VREF_7 (io), V28 VCCO_7 (power), V29 VCCO_7 (power), V31 IO_L26P_7 (io), V32 IO_L35P_7 (io), V33 IO_L35N_7 (io), V34 IO_L38P_7 (io), V35 IO_L38N_7 (io), V36 IO_L41P_7 (io), V37 IO_L41N_7 (io), V38 IO_L54P_7 (io), V39 IO_L54N_7 (io), V40 IO_L58P_7 (io), V41 IO_L55P_7 (io), V42 IO_L55N_7 (io), W28 VCCO_7 (power), W29 VCCO_7 (power), W32 IO_L44P_7 (io), W33 IO_L44N_7 (io), W34 IO_L47N_7 (io), W35 VCCO_7 (power), W36 IO_L50N_7 (io), W37 IO_L57P_7 (io), W38 IO_L57N_7 (io), W39 VCCO_7 (power), W40 IO_L58N_7/VREF_7 (io), W41 IO_L60P_7 (io), W42 IO_L60N_7 (io), Y28 VCCO_7 (power), Y29 VCCO_7 (power), Y31 IO_L53P_7 (io), Y32 IO_L53N_7 (io), Y33 IO_L47P_7 (io), Y35 IO_L50P_7 (io), Y36 IO_L56P_7 (io), Y37 IO_L56N_7 (io), Y39 IO_L88P_7 (io), Y40 IO_L85P_7 (io), Y41 IO_L85N_7 (io)
part I pins: A2 VCCAUX (power), A3 VCCAUX (power), A12 VCCAUX (power), A21 VCCAUX (power), A22 VCCAUX (power), A31 VCCAUX (power), A40 VCCAUX (power), A41 VCCAUX (power), AA1 VCCAUX (power), AA16 VCCINT (power), AA27 VCCINT (power), AA42 VCCAUX (power), AB1 VCCAUX (power), AB16 VCCINT (power), AB27 VCCINT (power), AB42 VCCAUX (power), AC16 VCCINT (power), AC27 VCCINT (power), AD16 VCCINT (power), AD27 VCCINT (power), AE16 VCCINT (power), AE27 VCCINT (power), AF16 VCCINT (power), AF17 VCCINT (power), AF26 VCCINT (power), AF27 VCCINT (power), AG16 VCCINT (power), AG17 VCCINT (power), AG18 VCCINT (power), AG19 VCCINT (power), AG20 VCCINT (power), AG21 VCCINT (power), AG22 VCCINT (power), AG23 VCCINT (power), AG24 VCCINT (power), AG25 VCCINT (power), AG26 VCCINT (power), AG27 VCCINT (power), AH15 VCCINT (power), AH16 VCCINT (power), AH17 VCCINT (power), AH26 VCCINT (power), AH27 VCCINT (power), AH28 VCCINT (power), AJ14 VCCINT (power), AJ15 VCCINT (power), AJ16 VCCINT (power), AJ27 VCCINT (power), AJ28 VCCINT (power), AJ29 VCCINT (power), AK13 VCCINT (power), AK30 VCCINT (power), AL1 VCCAUX (power), AL42 VCCAUX (power), AM10 CCLK (io), AM33 M2 (in), AN10 DONE (io), AN33 M1 (in), AP10 PWRDWN_B (in), AP33 M0 (in), AY1 VCCAUX (power), AY42 VCCAUX (power), B1 VCCAUX (power), B42 VCCAUX (power), BA1 VCCAUX (power), BA42 VCCAUX (power), BB2 VCCAUX (power), BB3 VCCAUX (power), BB12 VCCAUX (power), BB21 VCCAUX (power), BB22 VCCAUX (power), BB31 VCCAUX (power), BB40 VCCAUX (power), BB41 VCCAUX (power), C1 VCCAUX (power), C42 VCCAUX (power), J10 RSVD, J33 PROG_B (in), K10 TCK (in), K33 HSWAP_EN (in), L10 TMS (in), L33 DXN, M1 VCCAUX (power), M11 TDO (out), M12 VBATT (power), M31 DXP, M32 TDI (in), M42 VCCAUX (power), N13 VCCINT (power), N30 VCCINT (power), P14 VCCINT (power), P15 VCCINT (power), P16 VCCINT (power), P27 VCCINT (power), P28 VCCINT (power), P29 VCCINT (power), R15 VCCINT (power), R16 VCCINT (power), R17 VCCINT (power), R26 VCCINT (power), R27 VCCINT (power), R28 VCCINT (power), T16 VCCINT (power), T17 VCCINT (power), T18 VCCINT (power), T19 VCCINT (power), T20 VCCINT (power), T21 VCCINT (power), T22 VCCINT (power), T23 VCCINT (power), T24 VCCINT (power), T25 VCCINT (power), T26 VCCINT (power), T27 VCCINT (power), U16 VCCINT (power), U17 VCCINT (power), U26 VCCINT (power), U27 VCCINT (power), V16 VCCINT (power), V27 VCCINT (power), W16 VCCINT (power), W27 VCCINT (power), Y16 VCCINT (power), Y27 VCCINT (power)
part J pins: A5 GND (power), A9 GND (power), A13 GND (power), A17 GND (power), A20 GND (power), A23 GND (power), A26 GND (power), A30 GND (power), A34 GND (power), A38 GND (power), AA17 GND (power), AA18 GND (power), AA19 GND (power), AA20 GND (power), AA21 GND (power), AA22 GND (power), AA23 GND (power), AA24 GND (power), AA25 GND (power), AA26 GND (power), AB17 GND (power), AB18 GND (power), AB19 GND (power), AB20 GND (power), AB21 GND (power), AB22 GND (power), AB23 GND (power), AB24 GND (power), AB25 GND (power), AB26 GND (power), AC1 GND (power), AC5 GND (power), AC9 GND (power), AC17 GND (power), AC18 GND (power), AC19 GND (power), AC20 GND (power), AC21 GND (power), AC22 GND (power), AC23 GND (power), AC24 GND (power), AC25 GND (power), AC26 GND (power), AC34 GND (power), AC38 GND (power), AC42 GND (power), AD12 GND (power), AD17 GND (power), AD18 GND (power), AD19 GND (power), AD20 GND (power), AD21 GND (power), AD22 GND (power), AD23 GND (power), AD24 GND (power), AD25 GND (power), AD26 GND (power), AD31 GND (power), AE17 GND (power), AE18 GND (power), AE19 GND (power), AE20 GND (power), AE21 GND (power), AE22 GND (power), AE23 GND (power), AE24 GND (power), AE25 GND (power), AE26 GND (power), AF1 GND (power), AF5 GND (power), AF9 GND (power), AF18 GND (power), AF19 GND (power), AF20 GND (power), AF21 GND (power), AF22 GND (power), AF23 GND (power), AF24 GND (power), AF25 GND (power), AF34 GND (power), AF38 GND (power), AF42 GND (power), AK1 GND (power), AK5 GND (power), AK9 GND (power), AK34 GND (power), AK38 GND (power), AK42 GND (power), AL19 GND (power), AL24 GND (power), AP1 GND (power), AP5 GND (power), AP9 GND (power), AP13 GND (power), AP17 GND (power), AP20 GND (power), AP23 GND (power), AP26 GND (power), AP30 GND (power), AP34 GND (power), AP38 GND (power), AP42 GND (power), AV1 GND (power), AV5 GND (power), AV9 GND (power), AV13 GND (power), AV17 GND (power), AV20 GND (power), AV23 GND (power), AV26 GND (power), AV30 GND (power), AV34 GND (power), AV38 GND (power), AV42 GND (power), AY2 GND (power), AY41 GND (power), B2 GND (power), B3 GND (power), B40 GND (power), B41 GND (power), BA2 GND (power), BA3 GND (power), BA40 GND (power), BA41 GND (power), BB5 GND (power), BB9 GND (power), BB13 GND (power), BB17 GND (power), BB20 GND (power), BB23 GND (power), BB26 GND (power), BB30 GND (power), BB34 GND (power), BB38 GND (power), C2 GND (power), C41 GND (power), E1 GND (power), E5 GND (power), E9 GND (power), E13 GND (power), E17 GND (power), E20 GND (power), E23 GND (power), E26 GND (power), E30 GND (power), E34 GND (power), E38 GND (power), E42 GND (power), J1 GND (power), J5 GND (power), J9 GND (power), J13 GND (power), J17 GND (power), J20 GND (power), J23 GND (power), J26 GND (power), J30 GND (power), J34 GND (power), J38 GND (power), J42 GND (power), M19 GND (power), M24 GND (power), N1 GND (power), N5 GND (power), N9 GND (power), N34 GND (power), N38 GND (power), N42 GND (power), U1 GND (power), U5 GND (power), U9 GND (power), U18 GND (power), U19 GND (power), U20 GND (power), U21 GND (power), U22 GND (power), U23 GND (power), U24 GND (power), U25 GND (power), U34 GND (power), U38 GND (power), U42 GND (power), V17 GND (power), V18 GND (power), V19 GND (power), V20 GND (power), V21 GND (power), V22 GND (power), V23 GND (power), V24 GND (power), V25 GND (power), V26 GND (power), W12 GND (power), W17 GND (power), W18 GND (power), W19 GND (power), W20 GND (power), W21 GND (power), W22 GND (power), W23 GND (power), W24 GND (power), W25 GND (power), W26 GND (power), W31 GND (power), Y1 GND (power), Y5 GND (power), Y9 GND (power), Y17 GND (power), Y18 GND (power), Y19 GND (power), Y20 GND (power), Y21 GND (power), Y22 GND (power), Y23 GND (power), Y24 GND (power), Y25 GND (power), Y26 GND (power), Y34 GND (power), Y38 GND (power), Y42 GND (power)
part A text: Bank 0
part B text: Bank 1
part C text: Bank 2
part D text: Bank 3
part E text: Bank 4
part F text: Bank 5
part G text: Bank 6
part H text: Bank 7